# Altium footprint library TYPEC31M17.PcbLib: 1 footprints
Each footprint in its own frame and in the unit in brackets; x right, y up, seen from the top. Pads: shape width x height; smd on the part's side, far side on the other; paste and mask are expansions set on the pad; w line width, h text height; cw(c..) or ccw(c..) is an arc to the next point about the centre after c.
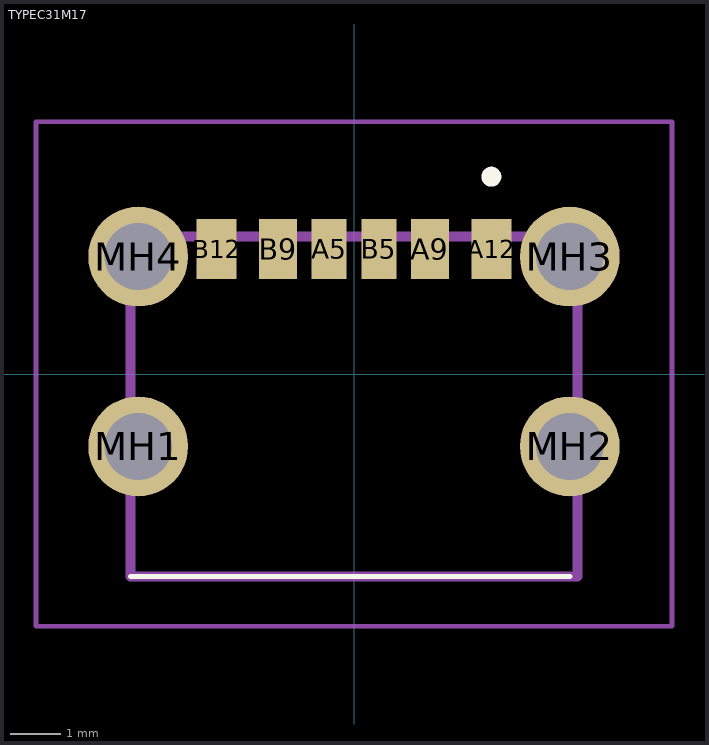
[diagram p0: the footprint, top view; thin cyan lines are the x and y axes]

## TYPEC31M17 [mm]
pads (10):
  rect 0.7x1.2 smd: A5(-0.5,2.5) B5(0.5,2.5)
  rect 0.76x1.2 smd: A9(1.52,2.5) B9(-1.52,2.5)
  rect 0.8x1.2 smd: A12(2.75,2.5) B12(-2.75,2.5)
  round 2 hole 1.346: MH1(-4.32,-1.45) MH2(4.32,-1.45) MH3(4.32,2.35) MH4(-4.32,2.35)
Top Overlay:
  lines w0.1: -4.47,-4.05 4.32,-4.05
  lines w0.2: 2.75,3.85 2.75,3.85 ; 2.75,3.85 ccw(c2.75,3.95) 2.75,4.05 ; 2.75,3.85 cw(c2.75,3.95) 2.75,4.05 ; 2.75,4.05 2.75,4.05
Mechanical 15:
  lines w0.2: -4.47,-4.05 4.47,-4.05 4.47,2.75 -4.47,2.75 -4.47,-4.05
Mechanical 20:
  lines w0.1: -6.37,-5.05 6.37,-5.05 6.37,5.05 -6.37,5.05 -6.37,-5.05